# Altium schematic symbol library SSW-108NEW.SchLib: 1 symbol
Pins are listed as number, name and electrical type; pins without a type are passive.

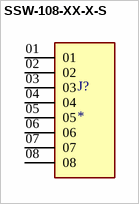
[diagram p0: symbol SSW-108-XX-X-S]

## SSW-108-XX-X-S
designator J?
8 Position Receptacle Connector Through Hole, Right Angle; MP: SSW-108-03-F-S; MF: Samtec; Availability: Bad; Purchase-URL: https://pricing.snapeda.com/search/part/SSW-108-03-F-S/?ref=eda; SnapEDA_Link: https://www.snapeda.com/parts/SSW-108-03-F-S/Samtec/view-part/3433832/?ref=snap; Price: None; Value: *; Check_prices: https://www.snapeda.com/parts/SSW-108-03-F-S/Samtec/view-part/3433832/?ref=eda; Package: None
footprint SAMTEC_SSW-108-XX-X-S
pins: 01, 02, 03, 04, 05, 06, 07, 08